# Altium footprint library Sensor+eeprom.PCBLIB: 1 footprints
Each footprint in its own frame and in the unit in brackets; x right, y up, seen from the top. Pads: shape width x height; smd on the part's side, far side on the other; paste and mask are expansions set on the pad; w line width, h text height; cw(c..) or ccw(c..) is an arc to the next point about the centre after c.
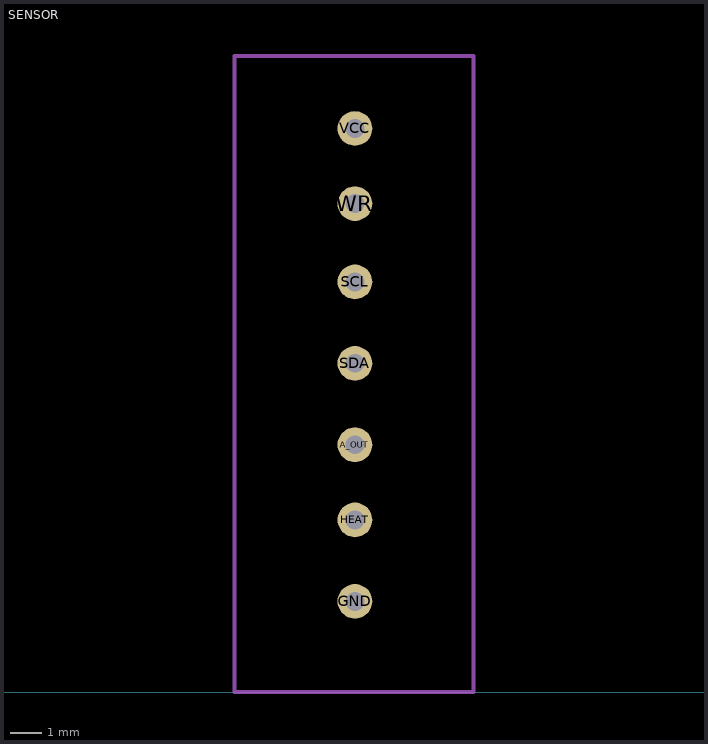
[diagram p0: the footprint, top view; thin cyan lines are the x and y axes]

## SENSOR [mm]
pads (7):
  round 1.108 hole 0.6: A_OUT(14,7.9) GND(14,2.9) HEAT(14,5.5) SCL(14,13.1) SDA(14,10.5) VCC(14,18) WR(14,15.6)
tPlace:
  lines w0.127: 10.16,0 17.78,0 17.78,20.32 10.16,20.32 10.16,0
  lines w0.152: 13.746,13.316 13.831,13.231 ; 14.022,18.048 14.031,18.058